# Altium schematic symbol library DM3CS-SF.SchLib: 1 symbol
Pins are listed as number, name and electrical type; pins without a type are passive.

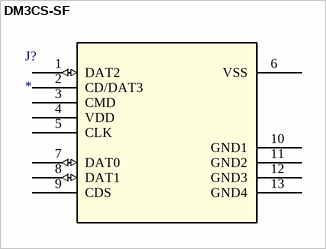
[diagram p0: symbol DM3CS-SF]

## DM3CS-SF
designator J?
No Description Available; Mfr_Name: Hirose; RefDes: RefDes; Type: Type
footprint DM3CS-SF_HIR
pins: 1 DAT2 (io), 2 CD/DAT3, 3 CMD, 4 VDD (power), 5 CLK, 6 VSS (power), 7 DAT0 (io), 8 DAT1 (io), 9 CDS, 10 GND1 (power), 11 GND2 (power), 12 GND3 (power), 13 GND4 (power)